# Altium footprint library pcb_generics.PcbLib: 7 footprints
Each footprint in its own frame and in the unit in brackets; x right, y up, seen from the top. Pads: shape width x height; smd on the part's side, far side on the other; paste and mask are expansions set on the pad; w line width, h text height; cw(c..) or ccw(c..) is an arc to the next point about the centre after c.
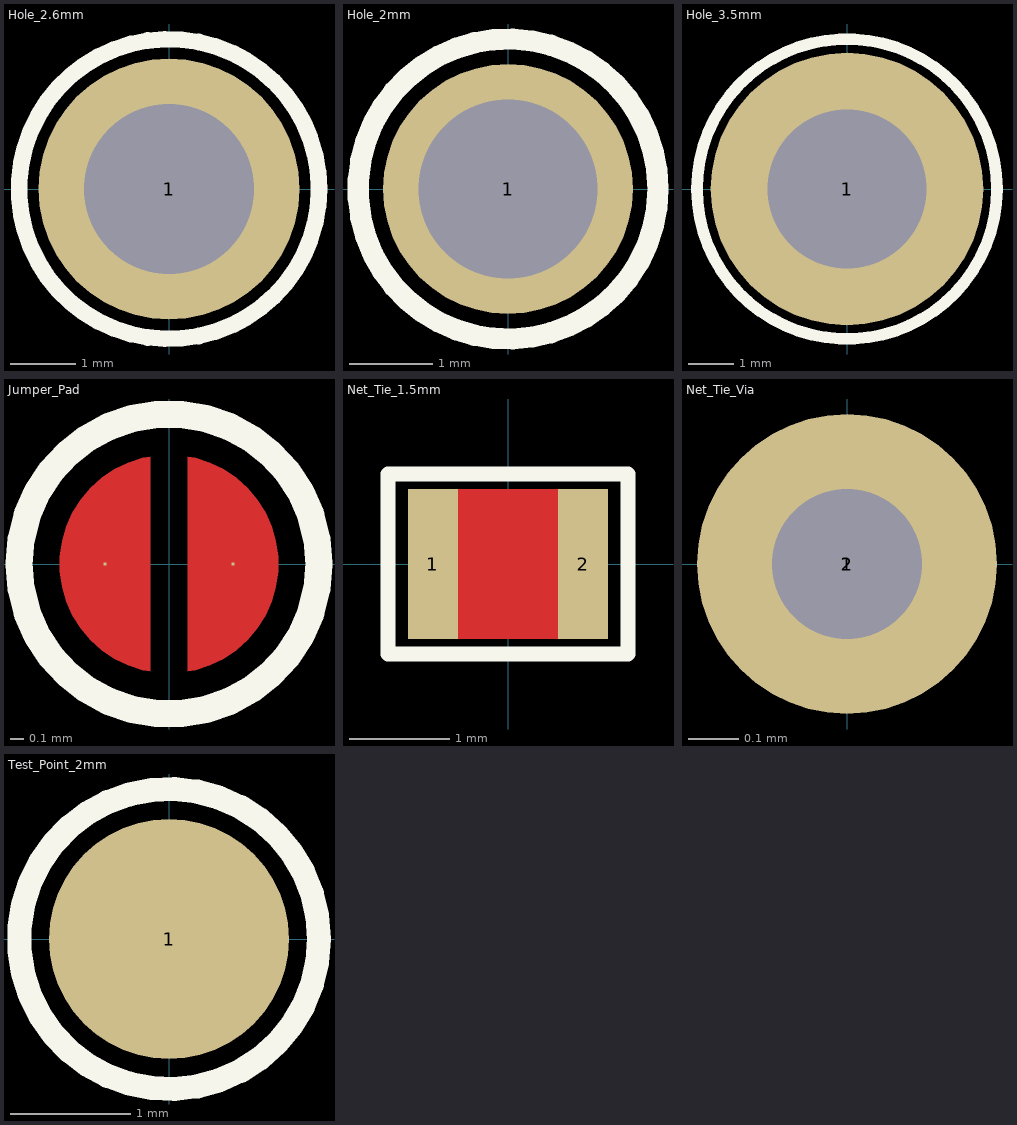
[diagram p0: the footprints below, top view; thin cyan lines are the x and y axes]

## Hole_2.6mm [mm] "2.6mm Hole with Exposed Ring"
pads (1):
  round 4 hole 2.6: 1(0,0)
Top Overlay:
  circle w0.254: c0,0 r2.3

## Hole_2mm [mm] "2mm Hole with Exposed Ring"
pads (1):
  round 3 hole 2.15: 1(0,0)
Top Overlay:
  circle w0.254: c0,0 r1.8

## Hole_3.5mm [mm] "3.5mm Hole with Exposed Ring"
pads (1):
  round 6 hole 3.5: 1(0,0)
Top Overlay:
  circle w0.254: c0,0 r3.3

## Jumper_Pad [mil] "Solderable Jumper Selector"
pads (2):
  round 1 smd: 1(-18.48,0) 2(18.48,0)
Top Layer:
  region: -5.47,-31.02 -7.64,-30.64 -11.83,-29.27 -15.79,-27.34 -19.44,-24.88 -22.71,-21.93 -25.54,-18.56 -27.88,-14.82 -29.67,-10.8 -30.88,-6.56 -31.5,-2.2 -31.5,2.2 -30.88,6.56 -29.67,10.8 -27.88,14.82 -25.54,18.56 -22.71,21.93 -19.44,24.88 -15.79,27.34 -11.83,29.27 -7.64,30.64 -5.47,31.02
  region: 5.47,-31.02 5.47,31.02 7.64,30.64 11.83,29.27 15.79,27.34 19.44,24.88 22.71,21.93 25.54,18.56 27.88,14.82 29.67,10.8 30.88,6.56 31.5,2.2 31.5,-2.2 30.88,-6.56 29.67,-10.8 27.88,-14.82 25.54,-18.56 22.71,-21.93 19.44,-24.88 15.79,-27.34 11.83,-29.27 7.64,-30.64
Top Overlay:
  circle w7.87: c0,0 r43.31

## Net_Tie_1.5mm [mm] "Net Tie, Track, 1.5mm Width"
pads (2):
  rect 0.5x1.5 smd paste-2539.97 mask+0.102: 1(-0.75,0) 2(0.75,0)
Top Layer:
  rectangle: -0.75,-0.75 0.75,0.75
Top Overlay:
  lines w0.15: -1.2,-0.9 -1.2,0.9 1.2,0.9 1.2,-0.9 -1.2,-0.9

## Net_Tie_Via [mm] "Net Tie, Via, 0.3mm Hole, 0.6mm Pad"
pads (2):
  round 0.6 hole 0.3: 1(0,0) 2(0,0)

## Test_Point_2mm [mm] "2mm Test Point Pad"
pads (1):
  round 2 smd: 1(0,0)
Top Overlay:
  circle w0.2: c0,0 r1.25